# EAGLE library part TPS2522-_TPS25221DBVR (library AT SoM Carrier Board V0.3r2)
Precision Adjustable Current-Limited Power-Distribution Switches Source: Datasheet <http://www.ti.com/lit/gpn/tps25221>
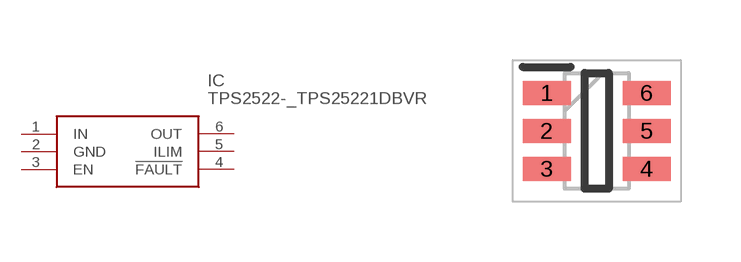
[diagram p6: symbol with the pads of TPS2522-_SOT95P280X145-6N; footprint TPS2522-_SOT95P280X145-6N]

Designator prefix IC

## TPS2522-_TPS25221DBVR (ARROW_PART_NUMBER: TPS25221DBVR; ARROW_PRICE-STOCK: https://www.arrow.com/en/products/tps25221dbvr/texas-instruments; DESCRIPTION: Precision Adjustable Current-Limited Power-Distribution Switches; HEIGHT: 1.45mm; MANUFACTURER_NAME: Texas Instruments; MANUFACTURER_PART_NUMBER: TPS25221DBVR; MOUSER_PART_NUMBER: 595-TPS25221DBVR; MOUSER_PRICE-STOCK: https://www.mouser.co.uk/ProductDetail/Texas-Instruments/TPS25221DBVR?qs=MLItCLRbWsxfIIG64r6YKw%3D%3D)  [TPS2522-_SOT95P280X145-6N]
1  IN
2  GND
3  EN
4  !FAULT
5  ILIM
6  OUT

## Footprint TPS2522-_SOT95P280X145-6N (pad centres in mm)
TPS25221DBVR
smd 1.2 x 0.6: 1 -1.25,0.95; 2 -1.25,0; 3 -1.25,-0.95; 4 1.25,-0.95; 5 1.25,0; 6 1.25,0.95